# EAGLE library part 613012216921 (library Board-to-Board (rev18a))
WR-PHD 2.54mm Dual S. Header Bottom Entry Large, 12 Pins=>Code : Con_BTB_SHD_2.54_2_613012216921 <http://katalog.we-online.de/media/images/eican/Con_BTB_SHD_2.54_2_6130xx216921_pf2.jpg> Details see: http://katalog.we-online.de/en/em/613_0xx_216_921 Created 2014-05-30, Karrer Zheng 2014 (C) Würth Elektronik
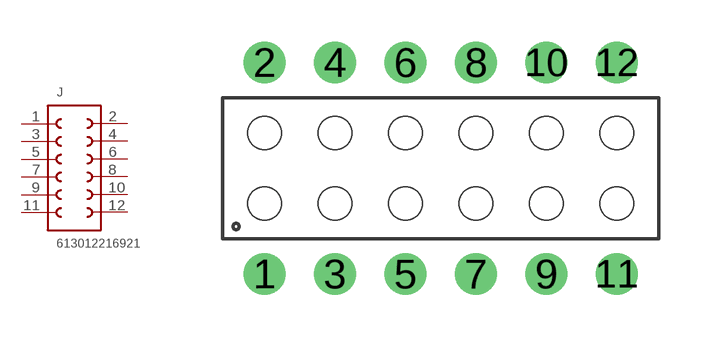
[diagram p167: symbol with the pads of 613012216921; footprint 613012216921]

Designator prefix J

## 613012216921  [613012216921]
1  1  pas
2  12  pas
3  2  pas
4  11  pas
5  3  pas
6  10  pas
7  4  pas
8  9  pas
9  5  pas
10  8  pas
11  6  pas
12  7  pas

## Footprint 613012216921 (pad centres in mm)
WR-PHD 2.54mm Dual S. Header Bottom Entry Large, 12 Pins
drill 1: 1 -6.35,-3.81; 2 -6.35,3.81; 3 -3.81,-3.81; 4 -3.81,3.81; 5 -1.27,-3.81; 6 -1.27,3.81; 7 1.27,-3.81; 8 1.27,3.81; 9 3.81,-3.81; 10 3.81,3.81; 11 6.35,-3.81; 12 6.35,3.81
hole 1.2 at -6.35,1.27
hole 1.2 at -3.81,1.27
hole 1.2 at -3.81,-1.27
hole 1.2 at -6.35,-1.27
hole 1.2 at -1.27,1.27
hole 1.2 at -1.27,-1.27
hole 1.2 at 1.27,-1.27
hole 1.2 at 1.27,1.27
hole 1.2 at 3.81,1.27
hole 1.2 at 3.81,-1.27
hole 1.2 at 6.35,-1.27
hole 1.2 at 6.35,1.27